# EAGLE library part STM32G4A1KEU6 (library STM32G4A1KEU6-STM)
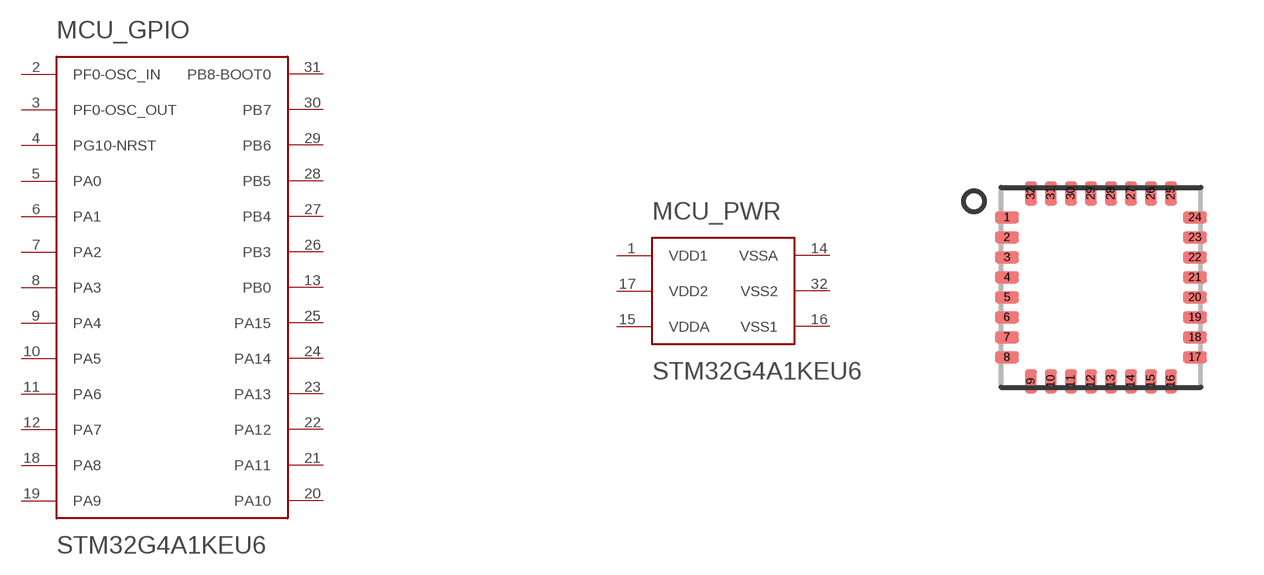
[diagram p0: symbol with the pads of 32-UFQFPN(5X5); footprint 32-UFQFPN(5X5)]

Designator prefix MCU; gates _GPIO=GENERAL-PURPOSE _PWR=POWER

## STM32G4A1KEU6  [32-UFQFPN(5X5)]
1  _PWR:VDD1  pas
2  _GPIO:PF0-OSC_IN
3  _GPIO:PF0-OSC_OUT
4  _GPIO:PG10-NRST
5  _GPIO:PA0
6  _GPIO:PA1
7  _GPIO:PA2
8  _GPIO:PA3
9  _GPIO:PA4
10  _GPIO:PA5
11  _GPIO:PA6
12  _GPIO:PA7
13  _GPIO:PB0
14  _PWR:VSSA  pas
15  _PWR:VDDA  pas
16  _PWR:VSS1  pas
17  _PWR:VDD2  pas
18  _GPIO:PA8
19  _GPIO:PA9
20  _GPIO:PA10
21  _GPIO:PA11
22  _GPIO:PA12
23  _GPIO:PA13
24  _GPIO:PA14
25  _GPIO:PA15
26  _GPIO:PB3
27  _GPIO:PB4
28  _GPIO:PB5
29  _GPIO:PB6
30  _GPIO:PB7
31  _GPIO:PB8-BOOT0
32  _PWR:VSS2  pas

## Footprint 32-UFQFPN(5X5) (pad centres in mm)
smd 0.6 x 0.3: 1 -2.35,1.75; 2 -2.35,1.25; 3 -2.35,0.75; 4 -2.35,0.25; 5 -2.35,-0.25; 6 -2.35,-0.75; 7 -2.35,-1.25; 8 -2.35,-1.75; 17 2.35,-1.75; 18 2.35,-1.25; 19 2.35,-0.75; 20 2.35,-0.25; 21 2.35,0.25; 22 2.35,0.75; 23 2.35,1.25; 24 2.35,1.75
smd 0.3 x 0.6: 9 -1.75,-2.35; 10 -1.25,-2.35; 11 -0.75,-2.35; 12 -0.25,-2.35; 13 0.25,-2.35; 14 0.75,-2.35; 15 1.25,-2.35; 16 1.75,-2.35; 25 1.75,2.35; 26 1.25,2.35; 27 0.75,2.35; 28 0.25,2.35; 29 -0.25,2.35; 30 -0.75,2.35; 31 -1.25,2.35; 32 -1.75,2.35